# Altium integrated library TI Power Management Battery Management.IntLib: 949 symbols (part 60 of 62)
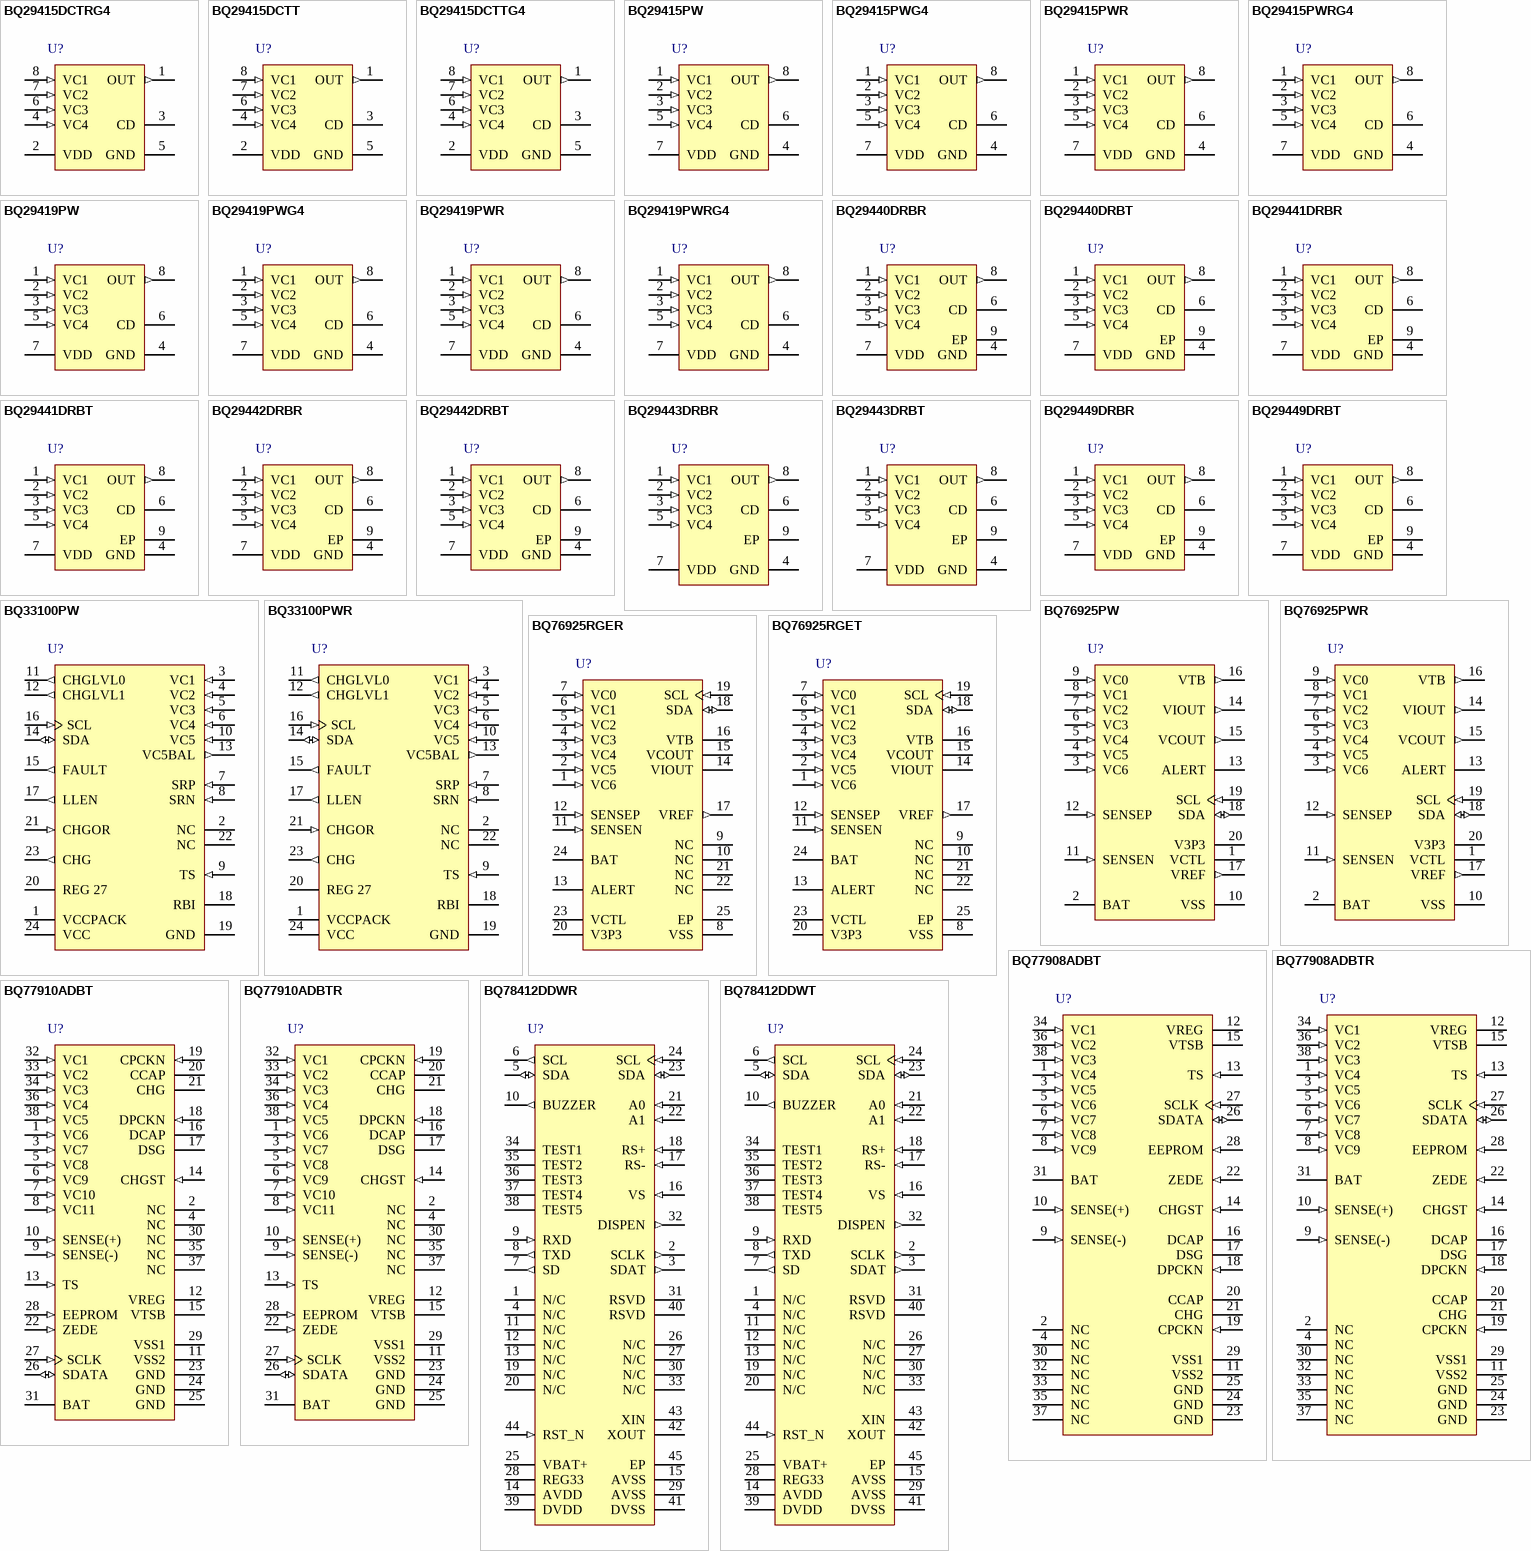
[diagram p93: symbols BQ29415DCTRG4 to BQ78412DDWT]

## BQ77908ADBTR
designator U?
Stand-Alone Multi-Cell Li-Ion / Li-Polymer Precision Protector, -40 to 85 degC, 38-pin TSSOP (DBT), Green (RoHS & no Sb/Br); PartNumber: BQ77908ADBTR; Manufacturer: Texas Instruments; Lead Acid: N; Li-Ion: Y; SubFamily: Lithium Ion Protection; DatasheetVersion: SLUSAV5; PackageVersion: revI, Mar-2011; PackageReference: DBT38; PackageDescription: 38-Pin Plastic Small Outline 0.5 mm Pitch; Supplier 1: Digi-Key; Supplier Part Number 1: BQ77908ADBTR-ND; Supplier 2: Newark; Supplier Part Number 2: 86T9111; Supplier 3: Mouser; Supplier Part Number 3: 595-BQ77908ADBTR; Eco-Plan: Green (RoHS & no Sb/Br); Li-Polymer: Y; NiCd: N; NiMH: N; Over Voltage Protection: Y; Mounting Technology: Surface Mount; Code_JEDEC: MO-153; ComponentLink1Description: Datasheet; ComponentLink1URL: http://www.ti.com/general/docs/lit/getliterature.tsp?genericPartNumber=BQ77908A&fileType=pdf
footprint DBT38_N (TSSOP, 38-Leads, Body 9.7x4.4mm, Pitch 0.5mm, IPC Medium Density)
footprint DBT38_L (TSSOP, 38-Leads, Body 9.7x4.4mm, Pitch 0.5mm, IPC High Density)
footprint DBT38_M (TSSOP, 38-Leads, Body 9.7x4.4mm, Pitch 0.5mm, IPC Low Density)
pins: 1 VC4 (in) "Sense-voltage input terminal for fourth-most-positive cell", 2 NC "No connect (DO NOT CONNECT) externally. Failure to leave NC pins open can cause faulty operation.", 3 VC5 (in) "Sense-voltage input terminal for fifth-most-positive cell", 4 NC "No connect (DO NOT CONNECT) externally. Failure to leave NC pins open can cause faulty operation.", 5 VC6 (in) "Sense-voltage input terminal for sixth-most-positive cell", 6 VC7 (in) "Sense-voltage input terminal for seventh-most-positive cell", 7 VC8 (in) "Sense-voltage input terminal for eighthmost-positive (most-negative) cell", 8 VC9 (in) "Most-negative cell(-) terminal (BAT-)", 9 SENSE(-) (in) "Current-sense input", 10 SENSE(+) (in) "Current-sense input", 11 VSS2 (power) "Analog ground (substrate reference)", 12 VREG (power) "Integrated 3.3-V regulator output", 13 TS (in) "Temperature sensing input", 14 CHGST (in) "Charger-status input, used to detect charger connection/wakeup", 15 VTSB (power) "Thermistor bias supply (sourced from VREG)", 16 DCAP "Energy storage capacitor for discharge FET drive", 17 DSG "Discharge FET (n-channel) gate drive", 18 DPCKN (in) "Pack - discharge negative terminal (load return)", 19 CPCKN (in) "Pack - charger negative terminal (charger return)", 20 CCAP "Energy storage capacitor for charge FET drive", 21 CHG "Charge FET (n-channel) gate drive", 22 ZEDE (in) "Zero Delay test mode pin. Enables serial communications interface and minimizes protection delay times when connected to logic high.Connect to VSS for normal operation.A strong connection is recommended.", 23 GND (power) "Logic ground (not for power return or analog reference). Tie to VSS.", 24 GND (power) "Logic ground (not for power return or analog reference). Tie to VSS.", 25 GND (power) "Logic ground (not for power return or analog reference). Tie to VSS.", 26 SDATA (io) "Serial-communication data input/output used for EEPROM programming (open-drain)", 27 SCLK (in) "Serial-communication clock input used for EEPROM programming", 28 EEPROM (in) "EEPROM programming voltage input. Connect to VSS for normal operation.", 29 VSS1 (power) "Analog ground (substrate reference)", 30 NC "No connect (DO NOT CONNECT) externally. Failure to leave NC pins open can cause faulty operation.", 31 BAT (power) "Power supply voltage, tied to highest cell(+)", 32 NC "No connect (DO NOT CONNECT) externally. Failure to leave NC pins open can cause faulty operation.", 33 NC "No connect (DO NOT CONNECT) externally. Failure to leave NC pins open can cause faulty operation.", 34 VC1 (in) "Sense-voltage input terminal for most-positive cell", 35 NC "No connect (DO NOT CONNECT) externally. Failure to leave NC pins open can cause faulty operation.", 36 VC2 (in) "Sense-voltage input terminal for second-most-positive cell", 37 NC "No connect (DO NOT CONNECT) externally. Failure to leave NC pins open can cause faulty operation.", 38 VC3 (in) "Sense-voltage input terminal for third-most-positive cell"

## BQ77910ADBT
designator U?
Standalone 4-10 Cell Precision Protector for Li-Ion Chemistries, -40 to 85 degC, 38-pin TSSOP (DBT), Green (RoHS & no Sb/Br); PartNumber: BQ77910ADBT; Manufacturer: Texas Instruments; Lead Acid: N; Li-Ion: Y; SubFamily: Lithium Ion Protection; DatasheetVersion: SLUSAV6; PackageVersion: revI, Mar-2011; PackageReference: DBT38; PackageDescription: 38-Pin Plastic Small Outline 0.5 mm Pitch; Supplier 1: Digi-Key; Supplier Part Number 1: 296-31360-ND; Supplier 2: Newark; Supplier Part Number 2: 86T9113; Supplier 3: Mouser; Supplier Part Number 3: 595-BQ77910ADBT; Eco-Plan: Green (RoHS & no Sb/Br); Li-Polymer: Y; NiCd: N; NiMH: N; Over Voltage Protection: Y; Mounting Technology: Surface Mount; Code_JEDEC: MO-153; ComponentLink1Description: Datasheet; ComponentLink1URL: http://www.ti.com/general/docs/lit/getliterature.tsp?genericPartNumber=BQ77910A&fileType=pdf
footprint DBT38_N (TSSOP, 38-Leads, Body 9.7x4.4mm, Pitch 0.5mm, IPC Medium Density)
footprint DBT38_L (TSSOP, 38-Leads, Body 9.7x4.4mm, Pitch 0.5mm, IPC High Density)
footprint DBT38_M (TSSOP, 38-Leads, Body 9.7x4.4mm, Pitch 0.5mm, IPC Low Density)
pins: 1 VC6 (in) "Sense-voltage input terminal for sixth-most-positive cell.", 2 NC "No connect (DO NOT CONNECT) externally. Failure to leave NC pins open can cause faulty operation.", 3 VC7 (in) "Sense-voltage input terminal for seventh-most-positive cell.", 4 NC "No connect (DO NOT CONNECT) externally. Failure to leave NC pins open can cause faulty operation.", 5 VC8 (in) "Sense-voltage input terminal for eighth-most-positive cell.", 6 VC9 (in) "Sense-voltage input terminal for ninth-most-positive cell.", 7 VC10 (in) "Sense-voltage input terminal for tenthmost-positive (most-negative) cell.", 8 VC11 (in) "Most-negative cell(-) terminal (BAT-).", 9 SENSE(-) (in) "Current-sense input.", 10 SENSE(+) (in) "Current-sense input.", 11 VSS2 (power) "Analog ground (substrate reference).", 12 VREG (power) "Integrated 3.3-V regulator output.", 13 TS (in) "Temperature sensing input.", 14 CHGST (in) "Charger-status input, used to detect charger connection/wakeup.", 15 VTSB "Thermistor bias supply (sourced from VREG).", 16 DCAP "Energy storage capacitor for discharge FET drive.", 17 DSG "Discharge FET (n-channel) gate drive.", 18 DPCKN (in) "Pack - discharge negative terminal (load return).", 19 CPCKN (in) "Pack - charger negative terminal (charger return).", 20 CCAP "Energy storage capacitor for charge FET drive.", 21 CHG "Charge FET (n-channel) gate drive.", 22 ZEDE (in) "Zero Delay test mode pin. Enables serial communications interface and minimizes protection delay times when connected to logic high. Connect to VSS for normal operation. A strong connection is recommended.", 23 GND (power) "Logic ground (not for power return or analog reference). Tie to VSS.", 24 GND (power) "Logic ground (not for power return or analog reference). Tie to VSS.", 25 GND (power) "Logic ground (not for power return or analog reference). Tie to VSS.", 26 SDATA (io) "Serial-communication data input/output used for EEPROM programming (open-drain).", 27 SCLK (in) "Serial-communication clock input used for EEPROM programming.", 28 EEPROM (in) "EEPROM programming voltage input. Connect to VSS for normal operation.", 29 VSS1 (power) "Analog ground (substrate reference).", 30 NC "No connect (DO NOT CONNECT) externally. Failure to leave NC pins open can cause faulty operation.", 31 BAT (power) "Power supply voltage, tied to highest cell(+).", 32 VC1 (in) "Sense-voltage input terminal for most-positive cell.", 33 VC2 (in) "Sense-voltage input terminal for second-most-positive cell.", 34 VC3 (in) "Sense-voltage input terminal for third-most-positive cell.", 35 NC "No connect (DO NOT CONNECT) externally. Failure to leave NC pins open can cause faulty operation.", 36 VC4 (in) "Sense-voltage input terminal for fourth-most-positive cell.", 37 NC "No connect (DO NOT CONNECT) externally. Failure to leave NC pins open can cause faulty operation.", 38 VC5 (in) "Sense-voltage input terminal for fifth-most-positive cell."

## BQ77910ADBTR
designator U?
Standalone 4-10 Cell Precision Protector for Li-Ion Chemistries, -40 to 85 degC, 38-pin TSSOP (DBT), Green (RoHS & no Sb/Br); PartNumber: BQ77910ADBTR; Manufacturer: Texas Instruments; Lead Acid: N; Li-Ion: Y; SubFamily: Battery Charge Management; DatasheetVersion: SLUSAV6; PackageVersion: revI, Mar-2011; PackageReference: DBT38; PackageDescription: 38-Pin Plastic Small Outline 0.5 mm Pitch; Supplier 1: Digi-Key; Supplier Part Number 1: 296-30251-2-ND; Supplier 2: Digi-Key; Supplier Part Number 2: 296-30251-1-ND; Supplier 3: Digi-Key; Supplier Part Number 3: 296-30251-6-ND; Supplier 4: Newark; Supplier Part Number 4: 86T9114; Supplier 5: Mouser; Supplier Part Number 5: 595-BQ77910ADBTR; Eco-Plan: Green (RoHS & no Sb/Br); Li-Polymer: Y; NiCd: N; NiMH: N; Over Voltage Protection: Y; Mounting Technology: Surface Mount; Code_JEDEC: MO-153; ComponentLink1Description: Datasheet; ComponentLink1URL: http://www.ti.com/general/docs/lit/getliterature.tsp?genericPartNumber=BQ77910A&fileType=pdf
footprint DBT38_N (TSSOP, 38-Leads, Body 9.7x4.4mm, Pitch 0.5mm, IPC Medium Density)
footprint DBT38_L (TSSOP, 38-Leads, Body 9.7x4.4mm, Pitch 0.5mm, IPC High Density)
footprint DBT38_M (TSSOP, 38-Leads, Body 9.7x4.4mm, Pitch 0.5mm, IPC Low Density)
pins: 1 VC6 (in) "Sense-voltage input terminal for sixth-most-positive cell.", 2 NC "No connect (DO NOT CONNECT) externally. Failure to leave NC pins open can cause faulty operation.", 3 VC7 (in) "Sense-voltage input terminal for seventh-most-positive cell.", 4 NC "No connect (DO NOT CONNECT) externally. Failure to leave NC pins open can cause faulty operation.", 5 VC8 (in) "Sense-voltage input terminal for eighth-most-positive cell.", 6 VC9 (in) "Sense-voltage input terminal for ninth-most-positive cell.", 7 VC10 (in) "Sense-voltage input terminal for tenthmost-positive (most-negative) cell.", 8 VC11 (in) "Most-negative cell(-) terminal (BAT-).", 9 SENSE(-) (in) "Current-sense input.", 10 SENSE(+) (in) "Current-sense input.", 11 VSS2 (power) "Analog ground (substrate reference).", 12 VREG (power) "Integrated 3.3-V regulator output.", 13 TS (in) "Temperature sensing input.", 14 CHGST (in) "Charger-status input, used to detect charger connection/wakeup.", 15 VTSB "Thermistor bias supply (sourced from VREG).", 16 DCAP "Energy storage capacitor for discharge FET drive.", 17 DSG "Discharge FET (n-channel) gate drive.", 18 DPCKN (in) "Pack - discharge negative terminal (load return).", 19 CPCKN (in) "Pack - charger negative terminal (charger return).", 20 CCAP "Energy storage capacitor for charge FET drive.", 21 CHG "Charge FET (n-channel) gate drive.", 22 ZEDE (in) "Zero Delay test mode pin. Enables serial communications interface and minimizes protection delay times when connected to logic high. Connect to VSS for normal operation. A strong connection is recommended.", 23 GND (power) "Logic ground (not for power return or analog reference). Tie to VSS.", 24 GND (power) "Logic ground (not for power return or analog reference). Tie to VSS.", 25 GND (power) "Logic ground (not for power return or analog reference). Tie to VSS.", 26 SDATA (io) "Serial-communication data input/output used for EEPROM programming (open-drain).", 27 SCLK (in) "Serial-communication clock input used for EEPROM programming.", 28 EEPROM (in) "EEPROM programming voltage input. Connect to VSS for normal operation.", 29 VSS1 (power) "Analog ground (substrate reference).", 30 NC "No connect (DO NOT CONNECT) externally. Failure to leave NC pins open can cause faulty operation.", 31 BAT (power) "Power supply voltage, tied to highest cell(+).", 32 VC1 (in) "Sense-voltage input terminal for most-positive cell.", 33 VC2 (in) "Sense-voltage input terminal for second-most-positive cell.", 34 VC3 (in) "Sense-voltage input terminal for third-most-positive cell.", 35 NC "No connect (DO NOT CONNECT) externally. Failure to leave NC pins open can cause faulty operation.", 36 VC4 (in) "Sense-voltage input terminal for fourth-most-positive cell.", 37 NC "No connect (DO NOT CONNECT) externally. Failure to leave NC pins open can cause faulty operation.", 38 VC5 (in) "Sense-voltage input terminal for fifth-most-positive cell."

## BQ78412DDWR
designator U?
Pb-Acid Battery State-of-Charge Indicator with Run-Time Display, -40 to 85 degC, 44-pin HTSSOP (DDW), Green (RoHS & no Sb/Br); PartNumber: BQ78412DDWR; Manufacturer: Texas Instruments; Lead Acid: N; SubFamily: Battery Fuel Gauge; DatasheetVersion: SLUSAA0; PackageVersion: revB, Oct-2006; PackageReference: DDW44-7600X3850TP; PackageDescription: 44-Pin PowerPAD Small Outline Package (Pad Down) 0.635 mm Pitch; Supplier 1: Digi-Key; Supplier Part Number 1: BQ78412DDWR-ND; Supplier 2: Newark; Supplier Part Number 2: 20T9756; Supplier 3: Mouser; Supplier Part Number 3: 595-BQ78412DDWR; Eco-Plan: Green (RoHS & no Sb/Br); Li-Ion: N; Li-Polymer: N; NiCd: N; NiMH: N; Over Voltage Protection: N; Mounting Technology: Surface Mount; ComponentLink1Description: Datasheet; ComponentLink1URL: http://www.ti.com/general/docs/lit/getliterature.tsp?genericPartNumber=BQ78412&fileType=pdf
footprint DDW44-7600X3850TP_N (TSOP, 44-Leads, Body 14x6.1mm, Pitch 0.635mm, Thermal Pad 8.3x4.2mm, IPC Medium Density)
footprint DDW44-7600X3850TP_L (TSOP, 44-Leads, Body 14x6.1mm, Pitch 0.635mm, Thermal Pad 8.3x4.2mm, IPC High Density)
footprint DDW44-7600X3850TP_M (TSOP, 44-Leads, Body 14x6.1mm, Pitch 0.635mm, Thermal Pad 8.3x4.2mm, IPC Low Density)
pins: 1 N/C "No connection", 2 SCLK (out) "Low-to-high transition clocks data into external serial in, parallel out shift register.", 3 SDAT (out) "Serial display data to serial in, parallel out shift register. A low bit turns on an LED.", 4 N/C "No connection", 5 SDA (io) "I2C data", 6 SCL (out) "I2C clock output", 7 SD (out) "IR XCVR Shutdown; HIGH=XCVR in shutdown, LOW=XCVR Active", 8 TXD (out) "UART TX data", 9 RXD (in) "UART RX data", 10 BUZZER (out) "Buzzer output. Active high when alarm condition is detected.", 11 N/C "No connection", 12 N/C "No connection", 13 N/C "No connection", 14 AVDD (power) "3.3-V power to the analog logic. Typically connected to REG33.", 15 AVSS (power) "Connect to ground.", 16 VS (in) "Sense voltage. Connect to battery positive.", 17 RS- (in) "Current sense negative", 18 RS+ (in) "Current sense positive", 19 N/C "No connection", 20 N/C "No connection", 21 A0 (in) "Configuration input. Connect to ground.", 22 A1 (in) "Configuration input. Connect to ground.", 23 SDA (io) "I2C data for internal use. Connect to SDA pin 5.", 24 SCL (in) "I2C clock for internal use. Connect to SCL pin 6.", 25 VBAT+ (power) "Input to internal regulator.", 26 N/C "No connection", 27 N/C "No connection", 28 REG33 (power) "Regulated 3.3-V power output.", 29 AVSS (power) "Connect to ground.", 30 N/C "No connection", 31 RSVD "Reserved, no connection required.", 32 DISPEN (out) "Active high output, turns on display enable transistor. Not required in all applications. Blanks display during updates.", 33 N/C "No connection", 34 TEST1 "Test pin, no connection", 35 TEST2 "Test pin, no connection", 36 TEST3 "Test pin, no connection", 37 TEST4 "Test pin, no connection", 38 TEST5 "Test pin, no connection", 39 DVDD (power) "3.3-V supply to the digital logic. Connect a 2.2- uF capacitor to VSS. Typically connected to REG33.", 40 RSVD "Reserved, no connection required.", 41 DVSS (power) "Connect to ground", 42 XOUT "Output terminal of 8-MHz crystal oscillator or crystal pin. (Optional: Can be left unconnected to use internal oscillator)", 43 XIN "Input terminal of 8-MHz crystal oscillator or crystal pin. (Optional: Can be left unconnected to use internal oscillator)", 44 RST_N (in) "Connect to external RC network for power-up reset.", 45 EP (power) "Thermal pad"

## BQ78412DDWT
designator U?
Pb-Acid Battery State-of-Charge Indicator with Run-Time Display, -40 to 85 degC, 44-pin HTSSOP (DDW), Green (RoHS & no Sb/Br); PartNumber: BQ78412DDWT; Manufacturer: Texas Instruments; Lead Acid: N; SubFamily: Battery Fuel Gauge; DatasheetVersion: SLUSAA0; PackageVersion: revB, Oct-2006; PackageReference: DDW44-7600X3850TP; PackageDescription: 44-Pin PowerPAD Small Outline Package (Pad Down) 0.635 mm Pitch; Supplier 1: Digi-Key; Supplier Part Number 1: 296-27954-2-ND; Supplier 2: Digi-Key; Supplier Part Number 2: 296-27954-1-ND; Supplier 3: Digi-Key; Supplier Part Number 3: 296-27954-6-ND; Supplier 4: Newark; Supplier Part Number 4: 20T9757; Supplier 5: Mouser; Supplier Part Number 5: 595-BQ78412DDWT; Eco-Plan: Green (RoHS & no Sb/Br); Li-Ion: N; Li-Polymer: N; NiCd: N; NiMH: N; Over Voltage Protection: N; Mounting Technology: Surface Mount; ComponentLink1Description: Datasheet; ComponentLink1URL: http://www.ti.com/general/docs/lit/getliterature.tsp?genericPartNumber=BQ78412&fileType=pdf
footprint DDW44-7600X3850TP_N (TSOP, 44-Leads, Body 14x6.1mm, Pitch 0.635mm, Thermal Pad 8.3x4.2mm, IPC Medium Density)
footprint DDW44-7600X3850TP_L (TSOP, 44-Leads, Body 14x6.1mm, Pitch 0.635mm, Thermal Pad 8.3x4.2mm, IPC High Density)
footprint DDW44-7600X3850TP_M (TSOP, 44-Leads, Body 14x6.1mm, Pitch 0.635mm, Thermal Pad 8.3x4.2mm, IPC Low Density)
pins: 1 N/C "No connection", 2 SCLK (out) "Low-to-high transition clocks data into external serial in, parallel out shift register.", 3 SDAT (out) "Serial display data to serial in, parallel out shift register. A low bit turns on an LED.", 4 N/C "No connection", 5 SDA (io) "I2C data", 6 SCL (out) "I2C clock output", 7 SD (out) "IR XCVR Shutdown; HIGH=XCVR in shutdown, LOW=XCVR Active", 8 TXD (out) "UART TX data", 9 RXD (in) "UART RX data", 10 BUZZER (out) "Buzzer output. Active high when alarm condition is detected.", 11 N/C "No connection", 12 N/C "No connection", 13 N/C "No connection", 14 AVDD (power) "3.3-V power to the analog logic. Typically connected to REG33.", 15 AVSS (power) "Connect to ground.", 16 VS (in) "Sense voltage. Connect to battery positive.", 17 RS- (in) "Current sense negative", 18 RS+ (in) "Current sense positive", 19 N/C "No connection", 20 N/C "No connection", 21 A0 (in) "Configuration input. Connect to ground.", 22 A1 (in) "Configuration input. Connect to ground.", 23 SDA (io) "I2C data for internal use. Connect to SDA pin 5.", 24 SCL (in) "I2C clock for internal use. Connect to SCL pin 6.", 25 VBAT+ (power) "Input to internal regulator.", 26 N/C "No connection", 27 N/C "No connection", 28 REG33 (power) "Regulated 3.3-V power output.", 29 AVSS (power) "Connect to ground.", 30 N/C "No connection", 31 RSVD "Reserved, no connection required.", 32 DISPEN (out) "Active high output, turns on display enable transistor. Not required in all applications. Blanks display during updates.", 33 N/C "No connection", 34 TEST1 "Test pin, no connection", 35 TEST2 "Test pin, no connection", 36 TEST3 "Test pin, no connection", 37 TEST4 "Test pin, no connection", 38 TEST5 "Test pin, no connection", 39 DVDD (power) "3.3-V supply to the digital logic. Connect a 2.2- uF capacitor to VSS. Typically connected to REG33.", 40 RSVD "Reserved, no connection required.", 41 DVSS (power) "Connect to ground", 42 XOUT "Output terminal of 8-MHz crystal oscillator or crystal pin. (Optional: Can be left unconnected to use internal oscillator)", 43 XIN "Input terminal of 8-MHz crystal oscillator or crystal pin. (Optional: Can be left unconnected to use internal oscillator)", 44 RST_N (in) "Connect to external RC network for power-up reset.", 45 EP (power) "Thermal pad"

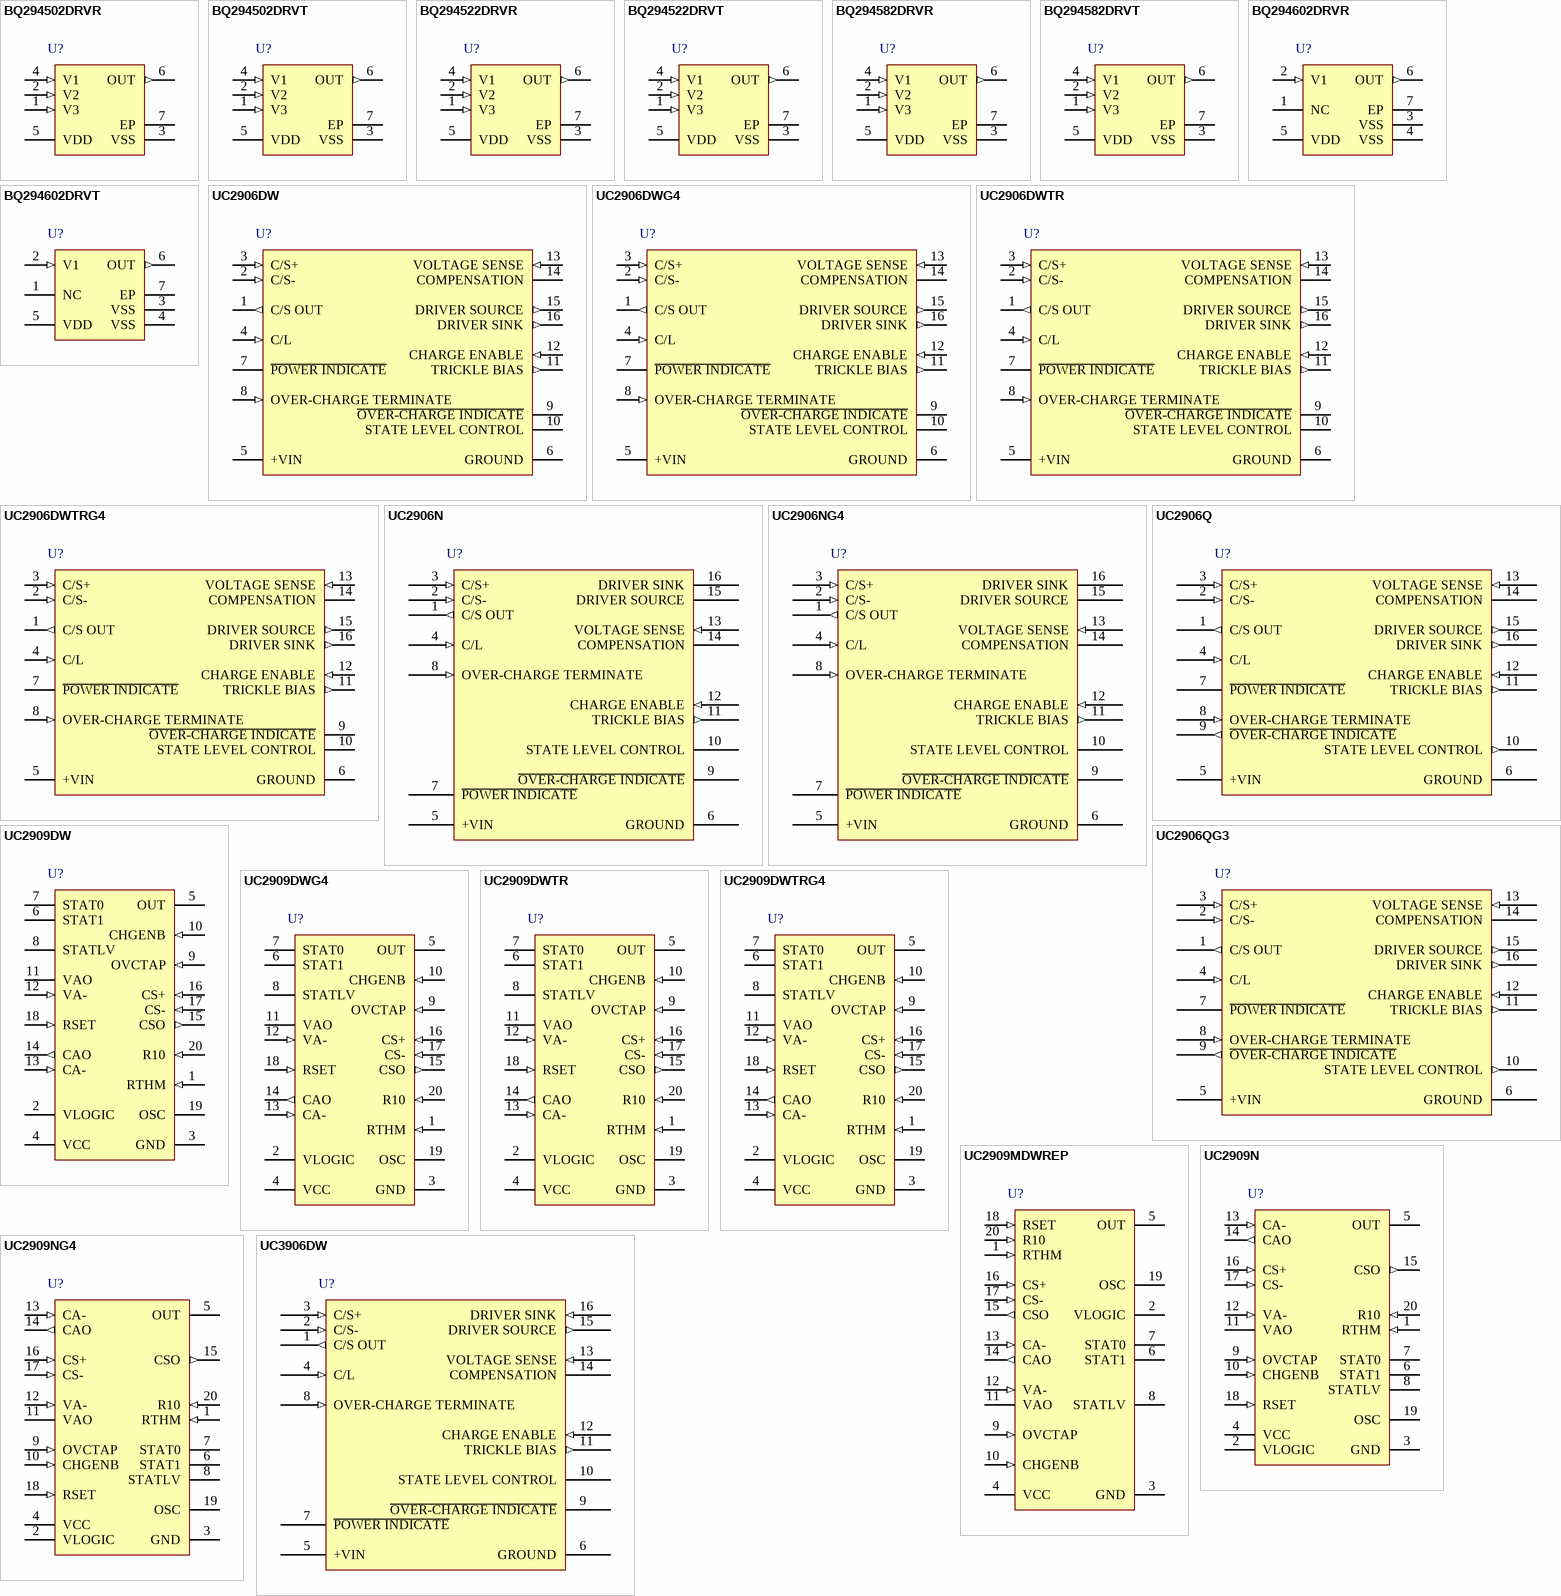
[diagram p33: symbols BQ294502DRVR to UC3906DW]

## BQ294502DRVR
designator U?
Overvoltage Protection Device for 2 to 3 Cell Li-Ion Batteries, with 4.35 V OVP, -40 to 85 degC, 6-pin SON (DRV), Green (RoHS & no Sb/Br); PartNumber: BQ294502DRVR; Manufacturer: Texas Instruments; Lead Acid: N; Li-Ion: Y; SubFamily: Lithium Ion Protection; DatasheetVersion: SLUSAJ3C; PackageVersion: revE, Oct-2010; PackageReference: DRV6-1600X1000TP; PackageDescription: 6-Pin Plastic Small Outline No-Lead, 2 x 2 x 0.8 mm Body, 0.65 mm Pitch, Exposed Pad; Supplier 1: Digi-Key; Supplier Part Number 1: BQ294502DRVR-ND; Supplier 2: Newark; Supplier Part Number 2: 68T8962; Supplier 3: Mouser; Supplier Part Number 3: 595-BQ294502DRVR; Eco-Plan: Green (RoHS & no Sb/Br); Li-Polymer: Y; NiCd: N; NiMH: N; Over Voltage Protection: Y; Mounting Technology: Surface Mount; ComponentLink1Description: Datasheet; ComponentLink1URL: http://www.ti.com/general/docs/lit/getliterature.tsp?genericPartNumber=BQ294502&fileType=pdf
footprint DRV6-1600X1000TP (SON, 6-Leads, Body 2x2mm, Pitch 0.65mm, Thermal Pad 1.6x1mm, TI Recommended)
pins: 1 V3 (in) "Sense input for positive voltage of the third cell from the bottom of the stack", 2 V2 (in) "Sense input for positive voltage of the second cell from the bottom of the stack", 3 VSS (power) "Electrically connected to IC ground and negative terminal of the lowest cell in the stack", 4 V1 (in) "Sense input for positive voltage of the lowest cell in the stack", 5 VDD (power) "Power supply", 6 OUT (out) "Output drive for external N-Channel FET", 7 EP (power) "VSS pin to be connected to the PWRPAD on the printed circuit board for proper operation"

## BQ294502DRVT
designator U?
Overvoltage Protection Device for 2 to 3 Cell Li-Ion Batteries, with 4.35 V OVP, -40 to 85 degC, 6-pin SON (DRV), Green (RoHS & no Sb/Br); PartNumber: BQ294502DRVT; Manufacturer: Texas Instruments; Lead Acid: N; Li-Ion: Y; SubFamily: Lithium Ion Protection; DatasheetVersion: SLUSAJ3C; PackageVersion: revE, Oct-2010; PackageReference: DRV6-1600X1000TP; PackageDescription: 6-Pin Plastic Small Outline No-Lead, 2 x 2 x 0.8 mm Body, 0.65 mm Pitch, Exposed Pad; Supplier 1: Digi-Key; Supplier Part Number 1: 296-29693-2-ND; Supplier 2: Digi-Key; Supplier Part Number 2: 296-29693-1-ND; Supplier 3: Digi-Key; Supplier Part Number 3: 296-29693-6-ND; Supplier 4: Newark; Supplier Part Number 4: 68T8963; Supplier 5: Mouser; Supplier Part Number 5: 595-BQ294502DRVT; Eco-Plan: Green (RoHS & no Sb/Br); Li-Polymer: Y; NiCd: N; NiMH: N; Over Voltage Protection: Y; Mounting Technology: Surface Mount; ComponentLink1Description: Datasheet; ComponentLink1URL: http://www.ti.com/general/docs/lit/getliterature.tsp?genericPartNumber=BQ294502&fileType=pdf
footprint DRV6-1600X1000TP (SON, 6-Leads, Body 2x2mm, Pitch 0.65mm, Thermal Pad 1.6x1mm, TI Recommended)
pins: 1 V3 (in) "Sense input for positive voltage of the third cell from the bottom of the stack", 2 V2 (in) "Sense input for positive voltage of the second cell from the bottom of the stack", 3 VSS (power) "Electrically connected to IC ground and negative terminal of the lowest cell in the stack", 4 V1 (in) "Sense input for positive voltage of the lowest cell in the stack", 5 VDD (power) "Power supply", 6 OUT (out) "Output drive for external N-Channel FET", 7 EP (power) "VSS pin to be connected to the PWRPAD on the printed circuit board for proper operation"

## BQ294522DRVR
designator U?
Overvoltage Protection Device for 2 to 3 Cell Li-Ion Batteries, with 4.45 V OVP, -40 to 85 degC, 6-pin SON (DRV), Green (RoHS & no Sb/Br); PartNumber: BQ294522DRVR; Manufacturer: Texas Instruments; Lead Acid: N; Li-Ion: Y; SubFamily: Lithium Ion Protection; DatasheetVersion: SLUSAJ3C; PackageVersion: revE, Oct-2010; PackageReference: DRV6-1600X1000TP; PackageDescription: 6-Pin Plastic Small Outline No-Lead, 2 x 2 x 0.8 mm Body, 0.65 mm Pitch, Exposed Pad; Supplier 1: Digi-Key; Supplier Part Number 1: BQ294522DRVR-ND; Supplier 2: Newark; Supplier Part Number 2: 68T8964; Supplier 3: Mouser; Supplier Part Number 3: 595-BQ294522DRVR; Eco-Plan: Green (RoHS & no Sb/Br); Li-Polymer: Y; NiCd: N; NiMH: N; Over Voltage Protection: Y; Mounting Technology: Surface Mount; ComponentLink1Description: Datasheet; ComponentLink1URL: http://www.ti.com/general/docs/lit/getliterature.tsp?genericPartNumber=BQ294522&fileType=pdf
footprint DRV6-1600X1000TP (SON, 6-Leads, Body 2x2mm, Pitch 0.65mm, Thermal Pad 1.6x1mm, TI Recommended)
pins: 1 V3 (in) "Sense input for positive voltage of the third cell from the bottom of the stack", 2 V2 (in) "Sense input for positive voltage of the second cell from the bottom of the stack", 3 VSS (power) "Electrically connected to IC ground and negative terminal of the lowest cell in the stack", 4 V1 (in) "Sense input for positive voltage of the lowest cell in the stack", 5 VDD (power) "Power supply", 6 OUT (out) "Output drive for external N-Channel FET", 7 EP (power) "VSS pin to be connected to the PWRPAD on the printed circuit board for proper operation"

## BQ294522DRVT
designator U?
Overvoltage Protection Device for 2 to 3 Cell Li-Ion Batteries, with 4.45 V OVP, -40 to 85 degC, 6-pin SON (DRV), Green (RoHS & no Sb/Br); PartNumber: BQ294522DRVT; Manufacturer: Texas Instruments; Lead Acid: N; Li-Ion: Y; SubFamily: Lithium Ion Protection; DatasheetVersion: SLUSAJ3C; PackageVersion: revE, Oct-2010; PackageReference: DRV6-1600X1000TP; PackageDescription: 6-Pin Plastic Small Outline No-Lead, 2 x 2 x 0.8 mm Body, 0.65 mm Pitch, Exposed Pad; Supplier 1: Digi-Key; Supplier Part Number 1: 296-29705-2-ND; Supplier 2: Digi-Key; Supplier Part Number 2: 296-29705-1-ND; Supplier 3: Digi-Key; Supplier Part Number 3: 296-29705-6-ND; Supplier 4: Newark; Supplier Part Number 4: 68T8965; Supplier 5: Mouser; Supplier Part Number 5: 595-BQ294522DRVT; Eco-Plan: Green (RoHS & no Sb/Br); Li-Polymer: Y; NiCd: N; NiMH: N; Over Voltage Protection: Y; Mounting Technology: Surface Mount; ComponentLink1Description: Datasheet; ComponentLink1URL: http://www.ti.com/general/docs/lit/getliterature.tsp?genericPartNumber=BQ294522&fileType=pdf
footprint DRV6-1600X1000TP (SON, 6-Leads, Body 2x2mm, Pitch 0.65mm, Thermal Pad 1.6x1mm, TI Recommended)
pins: 1 V3 (in) "Sense input for positive voltage of the third cell from the bottom of the stack", 2 V2 (in) "Sense input for positive voltage of the second cell from the bottom of the stack", 3 VSS (power) "Electrically connected to IC ground and negative terminal of the lowest cell in the stack", 4 V1 (in) "Sense input for positive voltage of the lowest cell in the stack", 5 VDD (power) "Power supply", 6 OUT (out) "Output drive for external N-Channel FET", 7 EP (power) "VSS pin to be connected to the PWRPAD on the printed circuit board for proper operation"

## BQ294582DRVR
designator U?
Overvoltage Protection for 2-Series and 3-Series Cell Li-Ion Batteries, with 4.225 V OVP, -40 to 85 degC, 6-pin SON (DRV), Green (RoHS & no Sb/Br); PartNumber: BQ294582DRVR; Manufacturer: Texas Instruments; Lead Acid: N; Li-Ion: Y; SubFamily: Lithium Ion Protection; DatasheetVersion: SLUSAJ3C; PackageVersion: revE, Oct-2010; PackageReference: DRV6-1600X1000TP; PackageDescription: 6-Pin Plastic Small Outline No-Lead, 2 x 2 x 0.8 mm Body, 0.65 mm Pitch, Exposed Pad; Supplier 1: Digi-Key; Supplier Part Number 1: BQ294582DRVR-ND; Supplier 2: Newark; Supplier Part Number 2: 76T5266; Supplier 3: Mouser; Supplier Part Number 3: 595-BQ294582DRVR; Eco-Plan: Green (RoHS & no Sb/Br); Li-Polymer: Y; NiCd: N; NiMH: N; Over Voltage Protection: Y; Mounting Technology: Surface Mount; ComponentLink1Description: Datasheet; ComponentLink1URL: http://www.ti.com/general/docs/lit/getliterature.tsp?genericPartNumber=BQ294582&fileType=pdf
footprint DRV6-1600X1000TP (SON, 6-Leads, Body 2x2mm, Pitch 0.65mm, Thermal Pad 1.6x1mm, TI Recommended)
pins: 1 V3 (in) "Sense input for positive voltage of the third cell from the bottom of the stack", 2 V2 (in) "Sense input for positive voltage of the second cell from the bottom of the stack", 3 VSS (power) "Electrically connected to IC ground and negative terminal of the lowest cell in the stack", 4 V1 (in) "Sense input for positive voltage of the lowest cell in the stack", 5 VDD (power) "Power supply", 6 OUT (out) "Output drive for external N-Channel FET", 7 EP (power) "VSS pin to be connected to the PWRPAD on the printed circuit board for proper operation"

## BQ294582DRVT
designator U?
Overvoltage Protection for 2-Series and 3-Series Cell Li-Ion Batteries, with 4.225 V OVP, -40 to 85 degC, 6-pin SON (DRV), Green (RoHS & no Sb/Br); PartNumber: BQ294582DRVT; Manufacturer: Texas Instruments; Lead Acid: N; Li-Ion: Y; SubFamily: Lithium Ion Protection; DatasheetVersion: SLUSAJ3C; PackageVersion: revE, Oct-2010; PackageReference: DRV6-1600X1000TP; PackageDescription: 6-Pin Plastic Small Outline No-Lead, 2 x 2 x 0.8 mm Body, 0.65 mm Pitch, Exposed Pad; Supplier 1: Digi-Key; Supplier Part Number 1: 296-30114-2-ND; Supplier 2: Digi-Key; Supplier Part Number 2: 296-30114-1-ND; Supplier 3: Digi-Key; Supplier Part Number 3: 296-30114-6-ND; Supplier 4: Farnell; Supplier Part Number 4: 2078512; Supplier 5: Newark; Supplier Part Number 5: 83T0352; Supplier 6: Newark; Supplier Part Number 6: 76T5267; Supplier 7: Mouser; Supplier Part Number 7: 595-BQ294582DRVT; Eco-Plan: Green (RoHS & no Sb/Br); Li-Polymer: Y; NiCd: N; NiMH: N; Over Voltage Protection: Y; Mounting Technology: Surface Mount; ComponentLink1Description: Datasheet; ComponentLink1URL: http://www.ti.com/general/docs/lit/getliterature.tsp?genericPartNumber=BQ294582&fileType=pdf
footprint DRV6-1600X1000TP (SON, 6-Leads, Body 2x2mm, Pitch 0.65mm, Thermal Pad 1.6x1mm, TI Recommended)
pins: 1 V3 (in) "Sense input for positive voltage of the third cell from the bottom of the stack", 2 V2 (in) "Sense input for positive voltage of the second cell from the bottom of the stack", 3 VSS (power) "Electrically connected to IC ground and negative terminal of the lowest cell in the stack", 4 V1 (in) "Sense input for positive voltage of the lowest cell in the stack", 5 VDD (power) "Power supply", 6 OUT (out) "Output drive for external N-Channel FET", 7 EP (power) "VSS pin to be connected to the PWRPAD on the printed circuit board for proper operation"

## BQ294602DRVR
designator U?
Overvoltage Protection Device for 1-Cell Li-Ion Batteries, with 4.35 V OVP, -40 to 85 degC, 6-pin SON (DRV), Green (RoHS & no Sb/Br); PartNumber: BQ294602DRVR; Manufacturer: Texas Instruments; Lead Acid: N; Li-Ion: Y; SubFamily: Lithium Ion Protection; DatasheetVersion: SLUSAS0B; PackageVersion: revE, Oct-2010; PackageReference: DRV6-1600X1000TP; PackageDescription: 6-Pin Plastic Small Outline No-Lead, 2 x 2 x 0.8 mm Body, 0.65 mm Pitch, Exposed Pad; Supplier 1: Digi-Key; Supplier Part Number 1: BQ294602DRVR-ND; Supplier 2: Newark; Supplier Part Number 2: 76T5268; Supplier 3: Mouser; Supplier Part Number 3: 595-BQ294602DRVR; Eco-Plan: Green (RoHS & no Sb/Br); Li-Polymer: Y; NiCd: N; NiMH: N; Over Voltage Protection: Y; Mounting Technology: Surface Mount; ComponentLink1Description: Datasheet; ComponentLink1URL: http://www.ti.com/general/docs/lit/getliterature.tsp?genericPartNumber=BQ294602&fileType=pdf
footprint DRV6-1600X1000TP (SON, 6-Leads, Body 2x2mm, Pitch 0.65mm, Thermal Pad 1.6x1mm, TI Recommended)
pins: 1 NC "No Connection", 2 V1 (in) "Sense input for positive voltage of the cell", 3 VSS (power) "Electrically connected to IC ground and negative terminal of the cell", 4 VSS (power) "Electrically connected to IC ground and negative terminal of the cell", 5 VDD (power) "Power supply", 6 OUT (out) "Output drive for external N-Channel FET", 7 EP (power) "VSS pin to be connected to the PWRPAD on the printed circuit board for proper operation"

## BQ294602DRVT
designator U?
Overvoltage Protection Device for 1-Cell Li-Ion Batteries, with 4.35 V OVP, -40 to 85 degC, 6-pin SON (DRV), Green (RoHS & no Sb/Br); PartNumber: BQ294602DRVT; Manufacturer: Texas Instruments; Lead Acid: N; Li-Ion: Y; SubFamily: Lithium Ion Protection; DatasheetVersion: SLUSAS0B; PackageVersion: revE, Oct-2010; PackageReference: DRV6-1600X1000TP; PackageDescription: 6-Pin Plastic Small Outline No-Lead, 2 x 2 x 0.8 mm Body, 0.65 mm Pitch, Exposed Pad; Supplier 1: Digi-Key; Supplier Part Number 1: 296-30091-2-ND; Supplier 2: Digi-Key; Supplier Part Number 2: 296-30091-1-ND; Supplier 3: Digi-Key; Supplier Part Number 3: 296-30091-6-ND; Supplier 4: Farnell; Supplier Part Number 4: 2078511; Supplier 5: Newark; Supplier Part Number 5: 83T0353; Supplier 6: Newark; Supplier Part Number 6: 76T5269; Supplier 7: Mouser; Supplier Part Number 7: 595-BQ294602DRVT; Eco-Plan: Green (RoHS & no Sb/Br); Li-Polymer: Y; NiCd: N; NiMH: N; Over Voltage Protection: Y; Mounting Technology: Surface Mount; ComponentLink1Description: Datasheet; ComponentLink1URL: http://www.ti.com/general/docs/lit/getliterature.tsp?genericPartNumber=BQ294602&fileType=pdf
footprint DRV6-1600X1000TP (SON, 6-Leads, Body 2x2mm, Pitch 0.65mm, Thermal Pad 1.6x1mm, TI Recommended)
pins: 1 NC "No Connection", 2 V1 (in) "Sense input for positive voltage of the cell", 3 VSS (power) "Electrically connected to IC ground and negative terminal of the cell", 4 VSS (power) "Electrically connected to IC ground and negative terminal of the cell", 5 VDD (power) "Power supply", 6 OUT (out) "Output drive for external N-Channel FET", 7 EP (power) "VSS pin to be connected to the PWRPAD on the printed circuit board for proper operation"

## UC2906DW
designator U?
Linear Lead-Acid Battery Charger, -40 to 70 degC, 16-pin SOIC (DW), Green (RoHS & no Sb/Br); PartNumber: UC2906DW; Manufacturer: Texas Instruments; Lead Acid: Y; Li-Ion: N; SubFamily: Battery Charge Management; DatasheetVersion: SLUS186C; PackageVersion: revG, Jan-2011; PackageReference: DW16; PackageDescription: 16-Pin Small Outline Integrated Circuit, 10.3 x 7.5 mm, Pitch 1.27 mm Pitch; Supplier 1: Digi-Key; Supplier Part Number 1: 296-2228-5-ND; Supplier 2: Newark; Supplier Part Number 2: 74K4004; Supplier 3: Mouser; Supplier Part Number 3: 595-UC2906DW; Eco-Plan: Green (RoHS & no Sb/Br); Li-Polymer: N; NiCd: N; NiMH: N; Over Voltage Protection: N; Mounting Technology: Surface Mount; Code_JEDEC: MS-013-AA; ComponentLink1Description: Datasheet; ComponentLink1URL: http://www.ti.com/general/docs/lit/getliterature.tsp?genericPartNumber=UC2906&fileType=pdf
footprint DW16_N (SOIC, 16-Leads, Body 10.3x7.5mm, Pitch 1.27mm, IPC Medium Density)
footprint DW16_L (SOIC, 16-Leads, Body 10.3x7.5mm, Pitch 1.27mm, IPC High Density)
footprint DW16_M (SOIC, 16-Leads, Body 10.3x7.5mm, Pitch 1.27mm, IPC Low Density)
pins: 1 C/S OUT (out), 2 C/S- (in), 3 C/S+ (in), 4 C/L (in), 5 +VIN (power), 6 GROUND (power), 7 ~{POWER INDICATE} (oc), 8 OVER-CHARGE TERMINATE (in), 9 ~{OVER-CHARGE INDICATE} (oc), 10 STATE LEVEL CONTROL (oc), 11 TRICKLE BIAS (out), 12 CHARGE ENABLE (in), 13 VOLTAGE SENSE (in), 14 COMPENSATION, 15 DRIVER SOURCE (out), 16 DRIVER SINK (out)

## UC2906DWG4
designator U?
Linear Lead-Acid Battery Charger, -40 to 70 degC, 16-pin SOIC (DW), Green (RoHS & no Sb/Br); PartNumber: UC2906DWG4; Manufacturer: Texas Instruments; Lead Acid: Y; Li-Ion: N; SubFamily: Battery Charge Management; DatasheetVersion: SLUS186C; PackageVersion: revG, Jan-2011; PackageReference: DW16; PackageDescription: 16-Pin Small Outline Integrated Circuit, 10.3 x 7.5 mm, Pitch 1.27 mm Pitch; Supplier 1: Digi-Key; Supplier Part Number 1: UC2906DWG4-ND; Supplier 2: Farnell; Supplier Part Number 2: 1207373; Supplier 3: Newark; Supplier Part Number 3: 31M0475; Supplier 4: Newark; Supplier Part Number 4: 63K6705; Supplier 5: Mouser; Supplier Part Number 5: 595-UC2906DWG4; Eco-Plan: Green (RoHS & no Sb/Br); Li-Polymer: N; NiCd: N; NiMH: N; Over Voltage Protection: N; Mounting Technology: Surface Mount; Code_JEDEC: MS-013-AA; ComponentLink1Description: Datasheet; ComponentLink1URL: http://www.ti.com/general/docs/lit/getliterature.tsp?genericPartNumber=UC2906&fileType=pdf
footprint DW16_N (SOIC, 16-Leads, Body 10.3x7.5mm, Pitch 1.27mm, IPC Medium Density)
footprint DW16_L (SOIC, 16-Leads, Body 10.3x7.5mm, Pitch 1.27mm, IPC High Density)
footprint DW16_M (SOIC, 16-Leads, Body 10.3x7.5mm, Pitch 1.27mm, IPC Low Density)
pins: 1 C/S OUT (out), 2 C/S- (in), 3 C/S+ (in), 4 C/L (in), 5 +VIN (power), 6 GROUND (power), 7 ~{POWER INDICATE} (oc), 8 OVER-CHARGE TERMINATE (in), 9 ~{OVER-CHARGE INDICATE} (oc), 10 STATE LEVEL CONTROL (oc), 11 TRICKLE BIAS (out), 12 CHARGE ENABLE (in), 13 VOLTAGE SENSE (in), 14 COMPENSATION, 15 DRIVER SOURCE (out), 16 DRIVER SINK (out)

## UC2906DWTR
designator U?
Linear Lead-Acid Battery Charger, -40 to 70 degC, 16-pin SOIC (DW), Green (RoHS & no Sb/Br); PartNumber: UC2906DWTR; Manufacturer: Texas Instruments; Lead Acid: Y; Li-Ion: N; SubFamily: Battery Charge Management; DatasheetVersion: SLUS186C; PackageVersion: revG, Jan-2011; PackageReference: DW16; PackageDescription: 16-Pin Small Outline Integrated Circuit, 10.3 x 7.5 mm, Pitch 1.27 mm Pitch; Supplier 1: Digi-Key; Supplier Part Number 1: 296-29431-2-ND; Supplier 2: Digi-Key; Supplier Part Number 2: 296-29431-1-ND; Supplier 3: Digi-Key; Supplier Part Number 3: 296-29431-6-ND; Supplier 4: Newark; Supplier Part Number 4: 77C3095; Supplier 5: Mouser; Supplier Part Number 5: 595-UC2906DWTR; Eco-Plan: Green (RoHS & no Sb/Br); Li-Polymer: N; NiCd: N; NiMH: N; Over Voltage Protection: N; Mounting Technology: Surface Mount; Code_JEDEC: MS-013-AA; ComponentLink1Description: Datasheet; ComponentLink1URL: http://www.ti.com/general/docs/lit/getliterature.tsp?genericPartNumber=UC2906&fileType=pdf
footprint DW16_N (SOIC, 16-Leads, Body 10.3x7.5mm, Pitch 1.27mm, IPC Medium Density)
footprint DW16_L (SOIC, 16-Leads, Body 10.3x7.5mm, Pitch 1.27mm, IPC High Density)
footprint DW16_M (SOIC, 16-Leads, Body 10.3x7.5mm, Pitch 1.27mm, IPC Low Density)
pins: 1 C/S OUT (out), 2 C/S- (in), 3 C/S+ (in), 4 C/L (in), 5 +VIN (power), 6 GROUND (power), 7 ~{POWER INDICATE} (oc), 8 OVER-CHARGE TERMINATE (in), 9 ~{OVER-CHARGE INDICATE} (oc), 10 STATE LEVEL CONTROL (oc), 11 TRICKLE BIAS (out), 12 CHARGE ENABLE (in), 13 VOLTAGE SENSE (in), 14 COMPENSATION, 15 DRIVER SOURCE (out), 16 DRIVER SINK (out)

## UC2906DWTRG4
designator U?
Linear Lead-Acid Battery Charger, -40 to 70 degC, 16-pin SOIC (DW), Green (RoHS & no Sb/Br); PartNumber: UC2906DWTRG4; Manufacturer: Texas Instruments; Lead Acid: Y; Li-Ion: N; SubFamily: Battery Charge Management; DatasheetVersion: SLUS186C; PackageVersion: revG, Jan-2011; PackageReference: DW16; PackageDescription: 16-Pin Small Outline Integrated Circuit, 10.3 x 7.5 mm, Pitch 1.27 mm Pitch; Supplier 1: Digi-Key; Supplier Part Number 1: UC2906DWTRG4-ND; Supplier 2: Newark; Supplier Part Number 2: 63K6706; Supplier 3: Mouser; Supplier Part Number 3: 595-UC2906DWTRG4; Eco-Plan: Green (RoHS & no Sb/Br); Li-Polymer: N; NiCd: N; NiMH: N; Over Voltage Protection: N; Mounting Technology: Surface Mount; Code_JEDEC: MS-013-AA; ComponentLink1Description: Datasheet; ComponentLink1URL: http://www.ti.com/general/docs/lit/getliterature.tsp?genericPartNumber=UC2906&fileType=pdf
footprint DW16_N (SOIC, 16-Leads, Body 10.3x7.5mm, Pitch 1.27mm, IPC Medium Density)
footprint DW16_L (SOIC, 16-Leads, Body 10.3x7.5mm, Pitch 1.27mm, IPC High Density)
footprint DW16_M (SOIC, 16-Leads, Body 10.3x7.5mm, Pitch 1.27mm, IPC Low Density)
pins: 1 C/S OUT (out), 2 C/S- (in), 3 C/S+ (in), 4 C/L (in), 5 +VIN (power), 6 GROUND (power), 7 ~{POWER INDICATE} (oc), 8 OVER-CHARGE TERMINATE (in), 9 ~{OVER-CHARGE INDICATE} (oc), 10 STATE LEVEL CONTROL (oc), 11 TRICKLE BIAS (out), 12 CHARGE ENABLE (in), 13 VOLTAGE SENSE (in), 14 COMPENSATION, 15 DRIVER SOURCE (out), 16 DRIVER SINK (out)

## UC2906N
designator U?
Linear Lead-Acid Battery Charger, -40 to 70 degC, 16-pin PDIP (N), Green (RoHS & no Sb/Br); PartNumber: UC2906N; Manufacturer: Texas Instruments; Lead Acid: Y; SubFamily: Battery Charge Management; DatasheetVersion: SLUS186C; PackageVersion: revE, Dec-2002; PackageReference: N16; PackageDescription: 16-Pin Plastic Dual-In-Line Package, Row Spacing 7.62 mm, Pitch 2.54 mm; Supplier 1: Digi-Key; Supplier Part Number 1: 296-11208-5-ND; Supplier 2: Newark; Supplier Part Number 2: 74K4005; Supplier 3: Mouser; Supplier Part Number 3: 595-UC2906N; Eco-Plan: Green (RoHS & no Sb/Br); Li-Ion: N; Li-Polymer: N; NiCd: N; NiMH: N; Over Voltage Protection: N; Mounting Technology: Through Hole; Code_JEDEC: MS-001*; ComponentLink1Description: Datasheet; ComponentLink1URL: http://www.ti.com/general/docs/lit/getliterature.tsp?genericPartNumber=UC2906&fileType=pdf
footprint N16 (DIP, 16-Leads, Row Spacing 7.62mm, Pitch 2.54mm, Body 19.3x6.4mm)
pins: 1 C/S OUT (out), 2 C/S- (in), 3 C/S+ (in), 4 C/L (in), 5 +VIN (power), 6 GROUND (power), 7 ~{POWER INDICATE} (oc), 8 OVER-CHARGE TERMINATE (in), 9 ~{OVER-CHARGE INDICATE} (oc), 10 STATE LEVEL CONTROL (oc), 11 TRICKLE BIAS (out), 12 CHARGE ENABLE (in), 13 VOLTAGE SENSE (in), 14 COMPENSATION, 15 DRIVER SOURCE, 16 DRIVER SINK

## UC2906NG4
designator U?
Linear Lead-Acid Battery Charger, -40 to 70 degC, 16-pin PDIP (N), Green (RoHS & no Sb/Br); PartNumber: UC2906NG4; Manufacturer: Texas Instruments; Lead Acid: Y; SubFamily: Battery Charge Management; DatasheetVersion: SLUS186C; PackageVersion: revE, Dec-2002; PackageReference: N16; PackageDescription: 16-Pin Plastic Dual-In-Line Package, Row Spacing 7.62 mm, Pitch 2.54 mm; Supplier 1: Digi-Key; Supplier Part Number 1: UC2906NG4-ND; Supplier 2: Farnell; Supplier Part Number 2: 1207375; Supplier 3: Newark; Supplier Part Number 3: 31M0476; Supplier 4: Newark; Supplier Part Number 4: 58K7113; Supplier 5: Mouser; Supplier Part Number 5: 595-UC2906NG4; Eco-Plan: Green (RoHS & no Sb/Br); Li-Ion: N; Li-Polymer: N; NiCd: N; NiMH: N; Over Voltage Protection: N; Mounting Technology: Through Hole; Code_JEDEC: MS-001*; ComponentLink1Description: Datasheet; ComponentLink1URL: http://www.ti.com/general/docs/lit/getliterature.tsp?genericPartNumber=UC2906&fileType=pdf
footprint N16 (DIP, 16-Leads, Row Spacing 7.62mm, Pitch 2.54mm, Body 19.3x6.4mm)
pins: 1 C/S OUT (out), 2 C/S- (in), 3 C/S+ (in), 4 C/L (in), 5 +VIN (power), 6 GROUND (power), 7 ~{POWER INDICATE} (oc), 8 OVER-CHARGE TERMINATE (in), 9 ~{OVER-CHARGE INDICATE} (oc), 10 STATE LEVEL CONTROL (oc), 11 TRICKLE BIAS (out), 12 CHARGE ENABLE (in), 13 VOLTAGE SENSE (in), 14 COMPENSATION, 15 DRIVER SOURCE, 16 DRIVER SINK

## UC2906Q
designator U?
Linear Lead-Acid Battery Charger, -40 to 70 degC, 20-pin PLCC (FN), Green (RoHS & no Sb/Br); PartNumber: UC2906Q; Manufacturer: Texas Instruments; Lead Acid: Y; Li-Ion: N; SubFamily: Battery Charge Management; DatasheetVersion: SLUS186C; PackageVersion: revB, Mar-1995; PackageReference: FN20; PackageDescription: 20-Pin Plastic Leaded Chip Carrier, 1.27 mm Pitch; Supplier 1: Digi-Key; Supplier Part Number 1: 296-34732-5-ND; Supplier 2: Newark; Supplier Part Number 2: 77C3096; Supplier 3: Mouser; Supplier Part Number 3: 595-UC2906Q; Eco-Plan: Green (RoHS & no Sb/Br); Li-Polymer: N; NiCd: N; NiMH: N; Over Voltage Protection: N; Mounting Technology: Surface Mount; Code_JEDEC: MS-018; ComponentLink1Description: Datasheet; ComponentLink1URL: http://www.ti.com/general/docs/lit/getliterature.tsp?genericPartNumber=UC2906&fileType=pdf
footprint FN20_N (Leaded Chip Carrier, 20-Leads, Body 9x9mm, Pitch 1.27mm, IPC Medium Density)
footprint FN20_L (Leaded Chip Carrier, 20-Leads, Body 9x9mm, Pitch 1.27mm, IPC High Density)
footprint FN20_M (Leaded Chip Carrier, 20-Leads, Body 9x9mm, Pitch 1.27mm, IPC Low Density)
pins: 1 C/S OUT (out), 2 C/S- (in), 3 C/S+ (in), 4 C/L (in), 5 +VIN (power), 6 GROUND (power), 7 ~{POWER INDICATE} (oc), 8 OVER-CHARGE TERMINATE (in), 9 ~{OVER-CHARGE INDICATE} (out), 10 STATE LEVEL CONTROL (out), 11 TRICKLE BIAS (out), 12 CHARGE ENABLE (in), 13 VOLTAGE SENSE (in), 14 COMPENSATION, 15 DRIVER SOURCE (out), 16 DRIVER SINK (out)

## UC2906QG3
designator U?
Linear Lead-Acid Battery Charger, -40 to 70 degC, 20-pin PLCC (FN), Green (RoHS & no Sb/Br); PartNumber: UC2906QG3; Manufacturer: Texas Instruments; Lead Acid: Y; Li-Ion: N; SubFamily: Battery Charge Management; DatasheetVersion: SLUS186C; PackageVersion: revB, Mar-1995; PackageReference: FN20; PackageDescription: 20-Pin Plastic Leaded Chip Carrier, 1.27 mm Pitch; Supplier 1: Digi-Key; Supplier Part Number 1: UC2906QG3-ND; Supplier 2: Newark; Supplier Part Number 2: 20M7050; Supplier 3: Mouser; Supplier Part Number 3: 595-UC2906QG3; Eco-Plan: Green (RoHS & no Sb/Br); Li-Polymer: N; NiCd: N; NiMH: N; Over Voltage Protection: N; Mounting Technology: Surface Mount; Code_JEDEC: MS-018; ComponentLink1Description: Datasheet; ComponentLink1URL: http://www.ti.com/general/docs/lit/getliterature.tsp?genericPartNumber=UC2906&fileType=pdf
footprint FN20_N (Leaded Chip Carrier, 20-Leads, Body 9x9mm, Pitch 1.27mm, IPC Medium Density)
footprint FN20_L (Leaded Chip Carrier, 20-Leads, Body 9x9mm, Pitch 1.27mm, IPC High Density)
footprint FN20_M (Leaded Chip Carrier, 20-Leads, Body 9x9mm, Pitch 1.27mm, IPC Low Density)
pins: 1 C/S OUT (out), 2 C/S- (in), 3 C/S+ (in), 4 C/L (in), 5 +VIN (power), 6 GROUND (power), 7 ~{POWER INDICATE} (oc), 8 OVER-CHARGE TERMINATE (in), 9 ~{OVER-CHARGE INDICATE} (out), 10 STATE LEVEL CONTROL (out), 11 TRICKLE BIAS (out), 12 CHARGE ENABLE (in), 13 VOLTAGE SENSE (in), 14 COMPENSATION, 15 DRIVER SOURCE (out), 16 DRIVER SINK (out)

## UC2909DW
designator U?
Switch-Mode Lead-Acid Battery Charger with Differential Current Sense, -40 to 85 degC, 20-pin SOIC (DW), Green (RoHS & no Sb/Br); PartNumber: UC2909DW; Manufacturer: Texas Instruments; Lead Acid: Y; Li-Ion: N; SubFamily: Battery Charge Management; PackageVersion: revG, Jan-2011; PackageReference: DW20; PackageDescription: 20-Pin Plastic Small Outline Integrated Circuit, 12.8 x 7.5 mm, Pitch 1.27 mm Pitch; Supplier 1: Digi-Key; Supplier Part Number 1: 296-12527-5-ND; Supplier 2: Newark; Supplier Part Number 2: 77C3103; Supplier 3: Mouser; Supplier Part Number 3: 595-UC2909DW; Eco-Plan: Green (RoHS & no Sb/Br); Li-Polymer: N; NiCd: N; NiMH: N; Over Voltage Protection: N; Mounting Technology: Surface Mount; Code_JEDEC: MS-013-AC; ComponentLink1Description: Datasheet; ComponentLink1URL: http://www.ti.com/general/docs/lit/getliterature.tsp?genericPartNumber=UC2909&fileType=pdf
footprint DW20_N (SOIC, 20-Leads, Body 12.8x7.5mm, Pitch 1.27mm, IPC Medium Density)
footprint DW20_L (SOIC, 20-Leads, Body 12.8x7.5mm, Pitch 1.27mm, IPC High Density)
footprint DW20_M (SOIC, 20-Leads, Body 12.8x7.5mm, Pitch 1.27mm, IPC Low Density)
pins: 1 RTHM (in) "A 10k thermistor is connected to ground and is thermally connected to the battery. The resistance will vary exponentially over temperature and its change is used to vary the internal 2.3V reference by -3.9mV/degreesC. The (See Datasheet)", 2 VLOGIC (power) "The precision reference voltage. It should be bypassed with a 0.1uF capacitor.", 3 GND (power) "The reference point for the internal reference, all thresholds, and the return for the remainder of the device. The output sink transistor is wired directly to this pin.", 4 VCC (power) "The input voltage to the chip. The chip is operational between 7.5V and 40V and should be bypassed with a 1uF capacitor. A typical ICC vs. temperature is shown in Figure 1.", 5 OUT (power) "The output of the PWM driver which consists of  an open collector output transistor with 100mA sink capability.", 6 STAT1 (oc) "This open collector pin is the second decode bit sed to decode the charge states.", 7 STAT0 (oc) "This open collector pin is the first decode bit used to decode the charge states.", 8 STATLV (oc) "This bit is high when the charger is in the float state.", 9 OVCTAP (in) "The overcharge current taper pin detects when the output current has tapered to the float threshold in the overcharge state.", 10 CHGENB (in) "The input to a comparator that detects when battery voltage is low and places the charger in a trickle charge state. The charge enable comparator makes the output of the voltage error amplifier a high impedance while forcing (See Datasheet)", 11 VAO (hiz) "The output of the voltage error amplifier. The upper output clamp voltage of this amplifier is 5V.", 12 VA- (in) "The inverting input to the voltage error amplifier.", 13 CA- (in) "The inverting input to the current error amplifier.", 14 CAO (out) "The output of the current error amplifier which is internally clamped to approximately 4V. It is internally connected to the inverting input of the PWM comparator.", 15 CSO (out) "The output of the current sense amplifier which is internally clamped to approximately 5.7V.", 16 CS+ (in) "The inverting and non-inverting inputs to the current sense amplifier. This amplifier has a fixed gain of five and a common-mode voltage range of from -250mV to +VCC.", 17 CS- (in) "The inverting and non-inverting inputs to the current sense amplifier. This amplifier has a fixed gain of five and a common-mode voltage range of from -250mV to +VCC.", 18 RSET (in) "A resistor to ground programs the oscillator charge current and the trickle control current for the oscillator ramp.The oscillator charge current is approximately 1.75 / RSET. The trickle control current (ITRCK_CONTROL) is (See Datasheet)", 19 OSC "The oscillator ramp pin which has a capacitor (CT) to ground. The ramp oscillates between approximately 1.0V to 3.0V and the frequency is approximated by:frequency=1 / (1.2*CT*Rset)", 20 R10 (in) "Input used to establish a differential voltage corresponding to the temperature of the thermistor. Connect a 10k resistor to ground from this point."